# EAGLE library part JUMPER_3X2 (library baiyun)
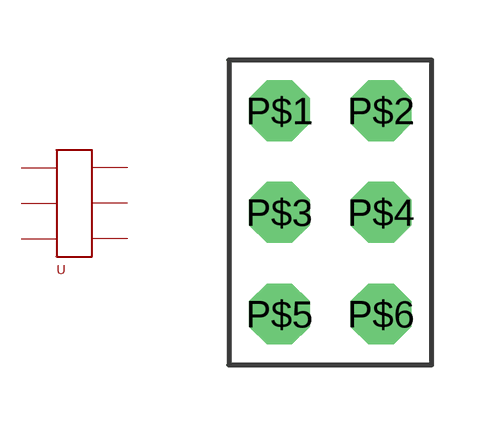
[diagram p206: symbol with the pads of JUMPER_2X3; footprint JUMPER_2X3]

Designator prefix -

## JUMPER_3X2  [JUMPER_2X3]
P$1  P$1
P$2  P$2
P$3  P$3
P$4  P$4
P$5  P$5
P$6  P$6

## Footprint JUMPER_2X3 (pad centres in mm)
drill 1.016 octagon: P$1 -1.27,2.54; P$2 1.27,2.54; P$3 -1.27,0; P$4 1.27,0; P$5 -1.27,-2.54; P$6 1.27,-2.54